# Altium schematic symbol library GSB1C411111DS1HR.SchLib: 1 symbol
Pins are listed as number, name and electrical type; pins without a type are passive.

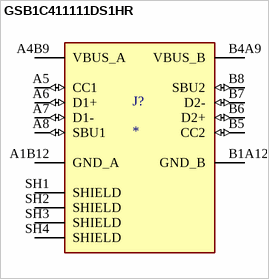
[diagram p0: symbol GSB1C411111DS1HR]

## GSB1C411111DS1HR
designator J?
USB2.0, Type C, Top mount, Center Height 1.68mm, Single Row Surface Mount; MF: Amphenol Canada; MP: GSB1C411111DS1HR; SnapEDA_Link: https://www.snapeda.com/parts/GSB1C411111DS1HR/Amphenol/view-part/?ref=snap; Package: None; Value: *; Check_prices: https://www.snapeda.com/parts/GSB1C411111DS1HR/Amphenol/view-part/?ref=eda
footprint AMPHENOL_GSB1C411111DS1HR
pins: A1B12 GND_A (power), A4B9 VBUS_A (power), A5 CC1 (io), A6 D1+ (io), A7 D1- (io), A8 SBU1 (io), B1A12 GND_B (power), B4A9 VBUS_B (power), B5 CC2 (io), B6 D2+ (io), B7 D2- (io), B8 SBU2 (io), SH1 SHIELD, SH2 SHIELD, SH3 SHIELD, SH4 SHIELD